# Altium footprint library HardWare.PcbLib: 173 footprints (part 6 of 11)
Each footprint in its own frame and in the unit in brackets; x right, y up, seen from the top. Pads: shape width x height; smd on the part's side, far side on the other; paste and mask are expansions set on the pad; w line width, h text height; cw(c..) or ccw(c..) is an arc to the next point about the centre after c.
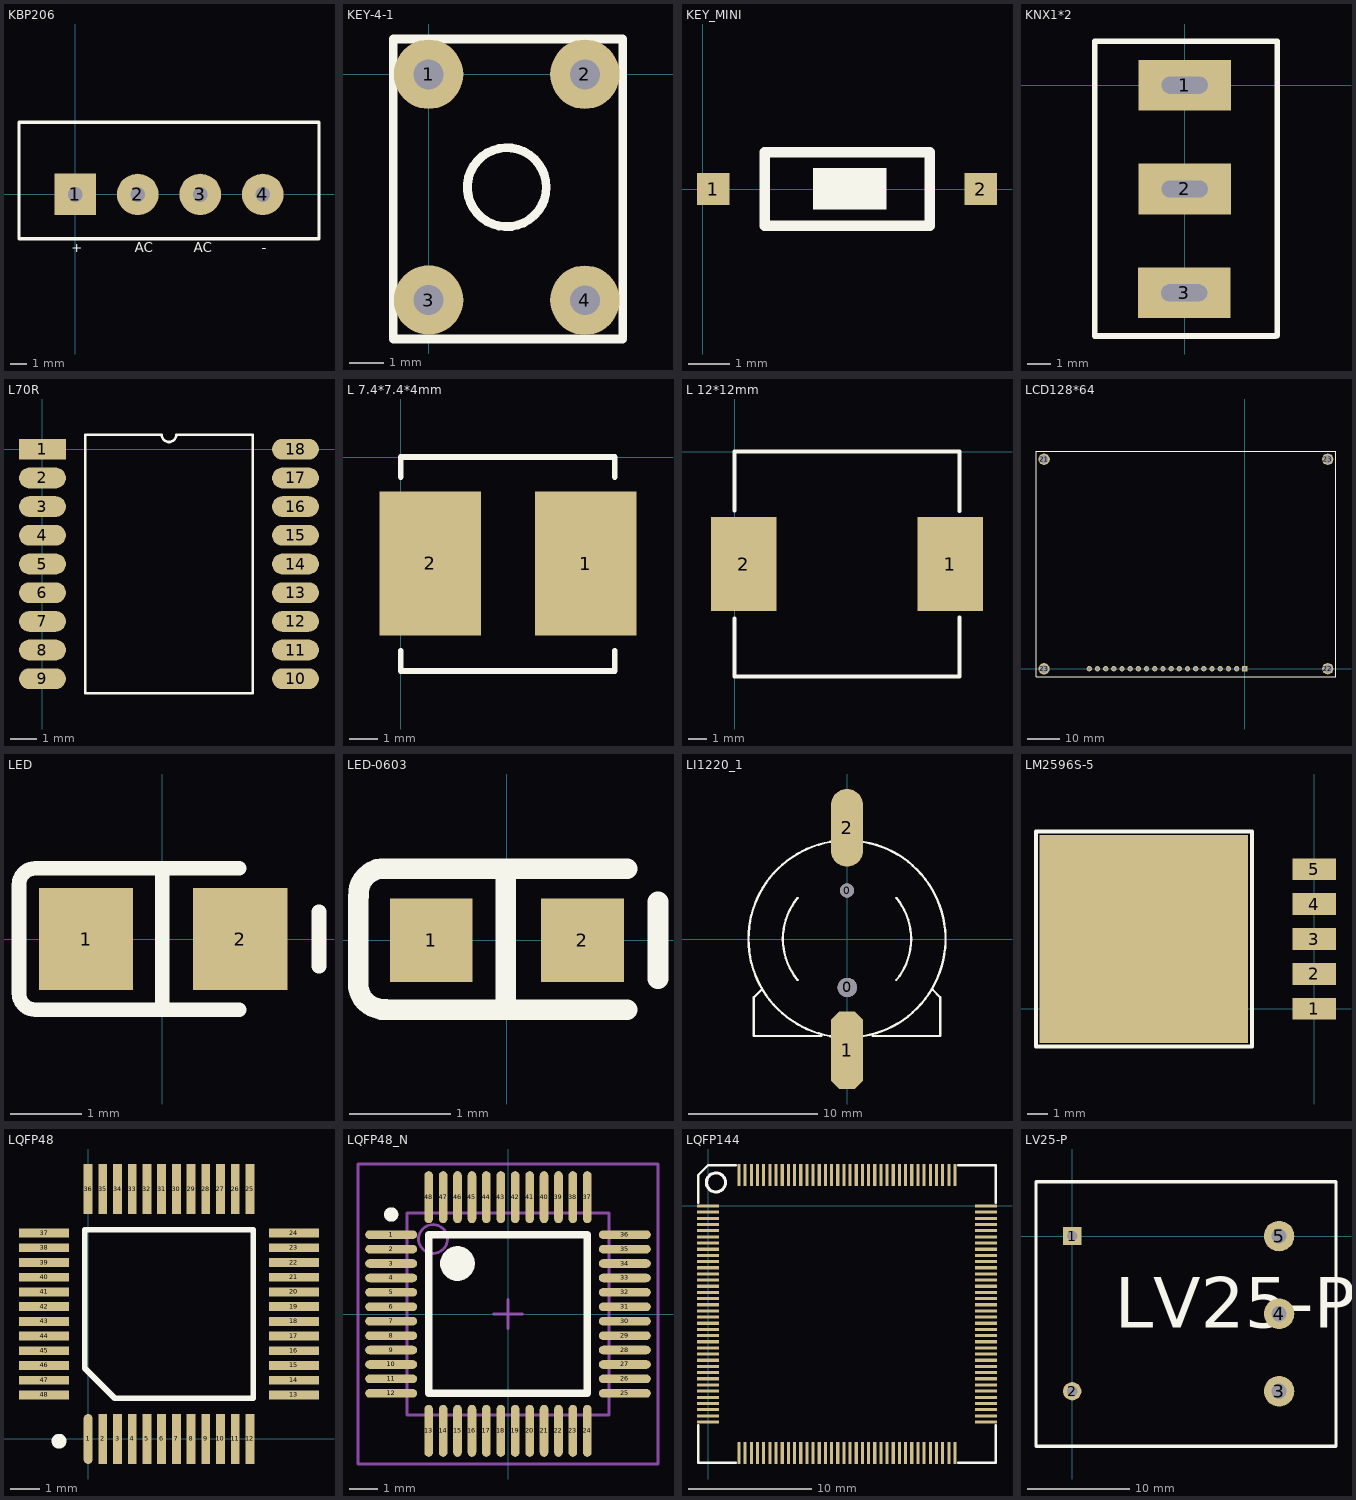
[diagram p5: the footprints below, top view; thin cyan lines are the x and y axes]

## KBP206 [mil] "全桥"
pads (4):
  rect 98x98 hole 35.04: 1(0,0)
  round 98 hole 35.04: 2(147.64,0) 3(295.28,0) 4(442.91,0)
Top Overlay:
  lines w7.87: -132.87,-104.72 -132.87,170.87 575.79,170.87 575.79,-104.72 -132.87,-104.72
  text "AC" at 280,-145 h39.37
  text "AC" at 140,-145 h39.37
  text "-" at 440,-145 h39.37
  text "+" at -10,-145 h39.37

## KEY-4-1 [mm]
pads (4):
  round 2 hole 0.862: 1(0,0) 2(4.5,0) 3(0,-6.5) 4(4.5,-6.504)
Top Overlay:
  circle w0.254: c2.25,-3.25 r1.136
  lines w0.254: -1.016,-7.62 5.588,-7.62 5.588,1.016 -1.016,1.016 -1.016,-7.112 -1.016,-7.62

## KEY_MINI [mil]
height 70.87
pads (2):
  rect 30.74x30.74 smd: 1(10,0) 2(265,0)
Top Overlay:
  rectangle: 105,-19.4 175,19.97
  lines w10: 59.06,-35 216.54,-35 216.54,35 59.06,35 59.06,-35

## KNX1*2 [mm]
pads (3):
  rect 4x2.2 hole 0.73 slot 2 at 0 deg: 1(0,0) 2(0,-4.5) 3(-0.025,-9)
Top Overlay:
  lines w0.254: 3.937,-10.867 -3.899,-10.867 -3.899,1.901 4.013,1.901 4.013,-10.846

## L70R [mm] "gps module"
pads (18):
  rect 1.8x0.8 smd: 1(0,0)
  oval 1.8x0.8 smd: 2(0,-1.1) 3(0,-2.2) 4(0,-3.3) 5(0,-4.4) 6(0,-5.5) 7(0,-6.6) 8(0,-7.7) 9(0,-8.8) 10(9.7,-8.8) 11(9.7,-7.7) 12(9.7,-6.6) 13(9.7,-5.5) 14(9.7,-4.4) 15(9.7,-3.3) 16(9.7,-2.2) 17(9.7,-1.1) 18(9.7,0)
Top Overlay:
  lines w0.1: 1.635,-9.35 1.635,0.55 4.575,0.55 ccw(c4.85,0.55) 5.125,0.55 8.065,0.55 8.065,-9.35 1.635,-9.35

## L 7.4*7.4*4mm [mm]
pads (2):
  rect 3.5x5 smd: 1(6.401,-3.683) 2(1.016,-3.683)
Top Overlay:
  lines w0.199: 0,-6.706 0,-7.4 7.4,-7.4 7.4,-6.706 ; 0,-0.686 0,0 7.4,0 7.4,-0.686

## L 12*12mm [mm]
pads (2):
  rect 3.5x5 smd: 1(11.5,-6) 2(0.5,-6)
Top Overlay:
  lines w0.199: 0,-8.89 0,-12 12,-12 12,-8.839 ; 0,-3.15 0,0 12,0 12,-3.175

## LCD128*64 [mm]
pads (24):
  rect 1.6x1.6 hole 1.05: 1(0,0)
  round 1.65 hole 1.05: 2(-2.54,0) 3(-5.08,0) 4(-7.62,0) 5(-10.16,0) 6(-12.7,0) 7(-15.24,0) 8(-17.78,0) 9(-20.32,0) 10(-22.86,0) 11(-25.4,0) 12(-27.94,0) 13(-30.48,0) 14(-33.02,0) 15(-35.56,0) 16(-38.1,0) 17(-40.64,0) 18(-43.18,0) 19(-45.72,0) 20(-48.26,0)
  round 3.5 hole 2.5: 21(-62.26,65) 22(25.74,0) 23(-62.296,-0.024) 23(25.74,65)
Top Overlay:
  lines w0.203: 28.27,67.524 -64.794,67.524 -64.794,-2.54 28.306,-2.54 28.306,67.539

## LED [mil]
pads (2):
  rect 52x56 smd: 1(-42,0) 2(43,0)
Top Overlay:
  lines w8: 0,-39 0,39 ; 42.5,-39 -70,-39 cw(c-70,-30) -79,-30 -79,30 cw(c-70,30) -70,39 42.5,39 ; 86.5,-15 86.5,15
3D body "blue.STEP": height 43.31, standoff 0, extent -39.76,-24.6 39.76,24.61

## LED-0603 [mm]
pads (2):
  rect 0.821x0.83 smd: 1(-0.75,0) 2(0.75,0)
Top Overlay:
  lines w0.203: -1.473,0.438 -1.473,-0.457 ccw(c-1.221,-0.429) -1.2,-0.682 ; -1.47,0.438 cw(c-1.217,0.459) -1.245,0.711 1.194,0.711 ; -1.245,-0.686 1.194,-0.686 ; -0.013,-0.686 -0.013,0.66 ; 1.499,-0.381 1.499,0.381
3D body "blue.STEP": height 1.1, standoff 0, extent -1.01,-0.625 1.01,0.625

## LI1220_1 [mm]
pads (4):
  round 1.1 hole 1.1 unplated: 0(0,3.75)
  round 1.5 hole 1.5 unplated: 0(0.025,-3.75)
  oct 2.5x6 smd: 1(0,-8.6)
  oval 2.5x6 smd: 2(0,8.6)
Top Overlay:
  lines w0.178: -6.6,-3.9 -7.2,-4.5 -7.2,-7.5 -2,-7.5 ; -3.815,-3.169 cw(c0,0) -3.812,3.172 ; -0.833,-7.574 cw(c0,0) -7.62,0 cw(c0,0) -0.833,7.574 ; 0.833,-7.574 ccw(c0,0) 0.833,7.574 ; 2,-7.5 7.2,-7.5 7.2,-4.5 6.625,-3.925 ; 3.81,-3.175 ccw(c0,0) 3.812,3.172

## LM2596S-5 [mm]
pads (6):
  rect 2.16x1.07 smd: 1(0,0) 2(0,1.727) 3(0,3.454) 4(0,5.182) 5(0,6.909)
  rect 10.3x10.3 smd: ""(-8.407,3.454)
Top Overlay:
  lines w0.2: -13.741,-1.854 -3.073,-1.854 -3.073,8.763 -13.741,8.763 -13.741,-1.854

## LQFP48 [mm]
pads (48):
  oval 0.3x1.7 smd: 1(0,0)
  rect 0.3x1.7 smd: 2(0.5,0) 3(1,0) 4(1.5,0) 5(2,0) 6(2.5,0) 7(3,0) 8(3.5,0) 9(4,0) 10(4.5,0) 11(5,0) 12(5.5,0) 25(5.5,8.5) 26(5,8.5) 27(4.5,8.5) 28(4,8.5) 29(3.5,8.5) 30(3,8.5) 31(2.5,8.5) 32(2,8.5) 33(1.5,8.5) 34(1,8.5) 35(0.5,8.5) 36(0,8.5)
  rect 1.7x0.3 smd: 13(7,1.5) 14(7,2) 15(7,2.5) 16(7,3) 17(7,3.5) 18(7,4) 19(7,4.5) 20(7,5) 21(7,5.5) 22(7,6) 23(7,6.5) 24(7,7) 37(-1.5,7) 38(-1.5,6.5) 39(-1.5,6) 40(-1.5,5.5) 41(-1.5,5) 42(-1.5,4.5) 43(-1.5,4) 44(-1.5,3.5) 45(-1.5,3) 46(-1.5,2.5) 47(-1.5,2) 48(-1.5,1.5)
Top Overlay:
  lines w0.2: -0.115,2.401 -0.115,7.115 5.615,7.115 5.615,1.385 0.901,1.385 -0.115,2.401
  lines w0.254: -0.867,-0.049 ccw(c-0.991,-0.076) -0.864,-0.076

## LQFP48_N [mm]
height 1.6
pads (48):
  oval 1.8x0.3 smd: 1(-4.05,2.75) 2(-4.05,2.25) 3(-4.05,1.75) 4(-4.05,1.25) 5(-4.05,0.75) 6(-4.05,0.25) 7(-4.05,-0.25) 8(-4.05,-0.75) 9(-4.05,-1.25) 10(-4.05,-1.75) 11(-4.05,-2.25) 12(-4.05,-2.75) 25(4.05,-2.75) 26(4.05,-2.25) 27(4.05,-1.75) 28(4.05,-1.25) 29(4.05,-0.75) 30(4.05,-0.25) 31(4.05,0.25) 32(4.05,0.75) 33(4.05,1.25) 34(4.05,1.75) 35(4.05,2.25) 36(4.05,2.75)
  oval 0.3x1.8 smd: 13(-2.75,-4.05) 14(-2.25,-4.05) 15(-1.75,-4.05) 16(-1.25,-4.05) 17(-0.75,-4.05) 18(-0.25,-4.05) 19(0.25,-4.05) 20(0.75,-4.05) 21(1.25,-4.05) 22(1.75,-4.05) 23(2.25,-4.05) 24(2.75,-4.05) 37(2.75,4.05) 38(2.25,4.05) 39(1.75,4.05) 40(1.25,4.05) 41(0.75,4.05) 42(0.25,4.05) 43(-0.25,4.05) 44(-0.75,4.05) 45(-1.25,4.05) 46(-1.75,4.05) 47(-2.25,4.05) 48(-2.75,4.05)
Top Overlay:
  circle w0.25: c-4.05,3.45 r0.125
  circle w0.6: c-1.75,1.75 r0.3
  lines w0.254: -2.75,-2.75 -2.75,2.75 2.75,2.75 2.75,-2.75 -2.75,-2.75
Mechanical 13:
  circle w0.1: c-2.6,2.6 r0.5
  lines w0.1: -3.5,-3.5 -3.5,3.5 3.5,3.5 3.5,-3.5 -3.5,-3.5
Mechanical 15:
  lines w0.1: -0.5,0 0.5,0 ; 0,-0.5 0,0.5 ; -5.2,-5.2 -5.2,5.2 5.2,5.2 5.2,-5.2 -5.2,-5.2
3D body: height 1.6, standoff 0, extent -3.5,-3.5 3.5,3.5

## LQFP144 [mm]
pads (144):
  rect 1.8x0.254 smd: 1(-0.009,0.001) 2(-0.009,-0.499) 3(-0.009,-0.999) 4(-0.009,-1.499) 5(-0.009,-1.999) 6(-0.009,-2.499) 7(-0.009,-2.999) 8(-0.009,-3.499) 9(-0.009,-3.999) 10(-0.009,-4.499) 11(-0.009,-4.999) 12(-0.009,-5.499) 13(-0.009,-5.999) 14(-0.009,-6.499) 15(-0.009,-6.999) 16(-0.009,-7.499) 17(-0.009,-7.999) 18(-0.009,-8.499) 19(-0.009,-8.999) 20(-0.009,-9.499) 21(-0.009,-9.999) 22(-0.009,-10.499) 23(-0.009,-10.999) 24(-0.009,-11.499) 25(-0.009,-11.999) 26(-0.009,-12.499) 27(-0.009,-12.999) 28(-0.009,-13.499) 29(-0.009,-13.999) 30(-0.009,-14.499) 31(-0.009,-14.999) 32(-0.009,-15.499) 33(-0.009,-15.999) 34(-0.009,-16.499) 35(-0.009,-16.999) 36(-0.009,-17.499) 73(22.491,-17.499) 74(22.491,-16.999) 75(22.491,-16.499) 76(22.491,-15.999) 77(22.491,-15.499) 78(22.491,-14.999) 79(22.491,-14.499) 80(22.491,-13.999) 81(22.491,-13.499) 82(22.491,-12.999) 83(22.491,-12.499) 84(22.491,-11.999) 85(22.491,-11.499) 86(22.491,-10.999) 87(22.491,-10.499) 88(22.491,-9.999) 89(22.491,-9.499) 90(22.491,-8.999) 91(22.491,-8.499) 92(22.491,-7.999) 93(22.491,-7.499) 94(22.491,-6.999) 95(22.491,-6.499) 96(22.491,-5.999) 97(22.491,-5.499) 98(22.491,-4.999) 99(22.491,-4.499) 100(22.491,-3.999) 101(22.491,-3.499) 102(22.491,-2.999) 103(22.491,-2.499) 104(22.491,-1.999) 105(22.491,-1.499) 106(22.491,-0.999) 107(22.491,-0.499) 108(22.491,0.001)
  rect 0.254x1.8 smd: 37(2.491,-19.999) 38(2.991,-19.999) 39(3.491,-19.999) 40(3.991,-19.999) 41(4.491,-19.999) 42(4.991,-19.999) 43(5.491,-19.999) 44(5.991,-19.999) 45(6.491,-19.999) 46(6.991,-19.999) 47(7.491,-19.999) 48(7.991,-19.999) 49(8.491,-19.999) 50(8.991,-19.999) 51(9.491,-19.999) 52(9.991,-19.999) 53(10.491,-19.999) 54(10.991,-19.999) 55(11.491,-19.999) 56(11.991,-19.999) 57(12.491,-19.999) 58(12.991,-19.999) 59(13.491,-19.999) 60(13.991,-19.999) 61(14.491,-19.999) 62(14.991,-19.999) 63(15.491,-19.999) 64(15.991,-19.999) 65(16.491,-19.999) 66(16.991,-19.999) 67(17.491,-19.999) 68(17.991,-19.999) 69(18.491,-19.999) 70(18.991,-19.999) 71(19.491,-19.999) 72(19.991,-19.999) 109(19.991,2.501) 110(19.491,2.501) 111(18.991,2.501) 112(18.491,2.501) 113(17.991,2.501) 114(17.491,2.501) 115(16.991,2.501) 116(16.491,2.501) 117(15.991,2.501) 118(15.491,2.501) 119(14.991,2.501) 120(14.491,2.501) 121(13.991,2.501) 122(13.491,2.501) 123(12.991,2.501) 124(12.491,2.501) 125(11.991,2.501) 126(11.491,2.501) 127(10.991,2.501) 128(10.491,2.501) 129(9.991,2.501) 130(9.491,2.501) 131(8.991,2.501) 132(8.491,2.501) 133(7.991,2.501) 134(7.491,2.501) 135(6.991,2.501) 136(6.491,2.501) 137(5.991,2.501) 138(5.491,2.501) 139(4.991,2.501) 140(4.491,2.501) 141(3.991,2.501) 142(3.491,2.501) 143(2.991,2.501) 144(2.491,2.501)
Top Overlay:
  circle w0.254: c0.624,1.905 r0.773
  lines w0.2: -0.809,-17.749 -0.809,-20.799 2.241,-20.799 ; -0.809,0.251 -0.809,2.501 -0.009,3.301 2.241,3.301 ; 20.241,-20.799 23.291,-20.799 23.291,-17.749 ; 20.241,3.301 23.291,3.301 23.291,0.251

## LV25-P [mm] "电压霍尔传感器"
pads (5):
  rect 1.8x1.8 hole 1: 1(0,0)
  round 1.8 hole 1: 2(0,-15.24)
  round 3 hole 1.5: 3(20.32,-15.24) 4(20.32,-7.62) 5(20.32,0)
Top Overlay:
  lines w0.3: -3.556,-20.64 -3.556,5.334 25.908,5.334 25.908,-20.64 -3.556,-20.64
  text "LV25-P" at 4.191,-9.017 h5